# EAGLE library part LZ4-40U600 (library ledMe)
High Efficacy 365nm UV LED Emitter Source: Data sheet <http://www.ledengin.com/files/products/LZ4/LZ4-00U600.pdf>
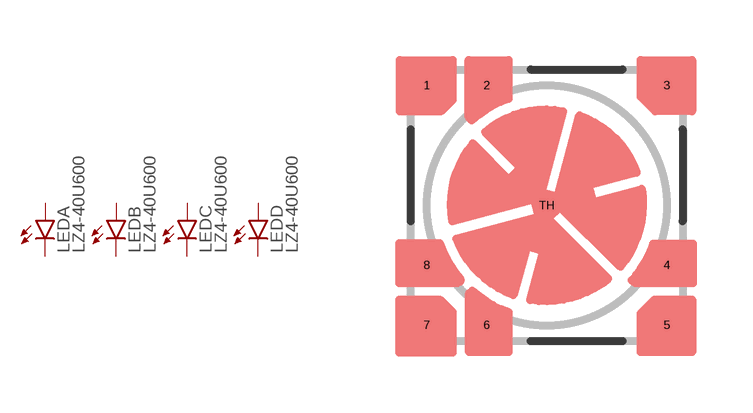
[diagram p14: symbol with the pads of LZ4-40U600; footprint LZ4-40U600]

Designator prefix LED; gates A=LED B=LED C=LED D=LED

## LZ4-40U600  [LZ4-40U600]
1  A:A  pas
2  A:C  pas
3  B:A  pas
4  B:C  pas
5  C:A  pas
6  C:C  pas
7  D:A  pas
8  D:C  pas

## Footprint LZ4-40U600 (pad centres in mm)
High Efficacy 365nm UV LED Emitter Source: Data sheet <http://www.ledengin.com/files/products/LZ4/LZ4-00U600.pdf>
smd 0.3 x 0.3: 1 -3,3; 2 -1.5,3; 3 3,3; 4 3,-1.5; 5 3,-3; 6 -1.5,-3; 7 -3,-3; 8 -3,-1.5; TH 0,0